# Altium schematic symbol library Schlib1.SchLib: 1 symbol
Pins are listed as number, name and electrical type; pins without a type are passive.

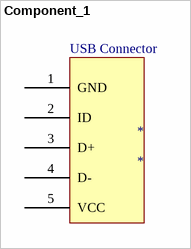
[diagram p0: symbol Component_1]

## Component_1
designator *
footprint USB Edge
pins: 1 GND, 2 ID, 3 D+, 4 D-, 5 VCC
text: USB Connector